# Altium schematic symbol library SST-20-WDS-A120-L2571.SchLib: 1 symbol
Pins are listed as number, name and electrical type; pins without a type are passive.

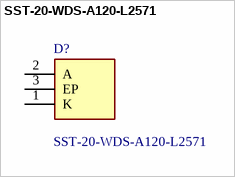
[diagram p0: symbol SST-20-WDS-A120-L2571]

## SST-20-WDS-A120-L2571
designator D?
High Power LEDs - White Daylight White LED 5700K 65 CRI; Manufacturer_Name: Luminus Devices Inc.; Geometry.Height: 2.11mm; Manufacturer_Part_Number: SST-20-WDS-A120-L2571; Mouser Part Number: 896-20WDSA120L2571; Mouser Price/Stock: https://www.mouser.co.uk/ProductDetail/Luminus-Devices/SST-20-WDS-A120-L2571?qs=byeeYqUIh0ONPztS2sD8ag%3D%3D; Arrow Part Number: *; Arrow Price/Stock: *; Datasheet Link: https://download.luminus.com/datasheets/Luminus_SST-20-WxS_Datasheet.pdf
footprint SST20WDSA120L2571
pins: 1 K, 2 A, 3 EP